# Altium footprint library ASM2464PD.PcbLib: 6 footprints
Each footprint in its own frame and in the unit in brackets; x right, y up, seen from the top. Pads: shape width x height; smd on the part's side, far side on the other; paste and mask are expansions set on the pad; w line width, h text height; cw(c..) or ccw(c..) is an arc to the next point about the centre after c.
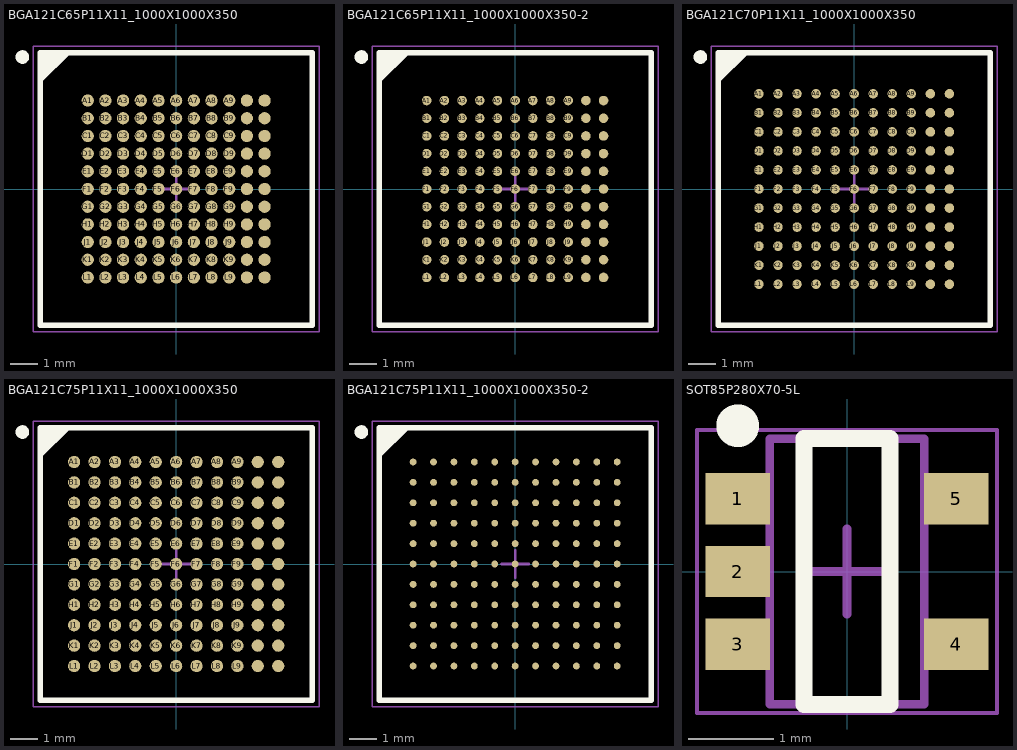
[diagram p0: the footprints below, top view; thin cyan lines are the x and y axes]

## BGA121C65P11X11_1000X1000X350 [mm] "BGA, 121-Leads, Body 10,00x10,00mmx3,50mm, Pitch 0,65mm"
height 3.5
pads (121):
  round 0.45 smd: A1(-3.25,3.25) A2(-2.6,3.25) A3(-1.95,3.25) A4(-1.3,3.25) A5(-0.65,3.25) A6(0,3.25) A7(0.65,3.25) A8(1.3,3.25) A9(1.95,3.25) A10(2.6,3.25) A11(3.25,3.25) B1(-3.25,2.6) B2(-2.6,2.6) B3(-1.95,2.6) B4(-1.3,2.6) B5(-0.65,2.6) B6(0,2.6) B7(0.65,2.6) B8(1.3,2.6) B9(1.95,2.6) B10(2.6,2.6) B11(3.25,2.6) C1(-3.25,1.95) C2(-2.6,1.95) C3(-1.95,1.95) C4(-1.3,1.95) C5(-0.65,1.95) C6(0,1.95) C7(0.65,1.95) C8(1.3,1.95) C9(1.95,1.95) C10(2.6,1.95) C11(3.25,1.95) D1(-3.25,1.3) D2(-2.6,1.3) D3(-1.95,1.3) D4(-1.3,1.3) D5(-0.65,1.3) D6(0,1.3) D7(0.65,1.3) D8(1.3,1.3) D9(1.95,1.3) D10(2.6,1.3) D11(3.25,1.3) E1(-3.25,0.65) E2(-2.6,0.65) E3(-1.95,0.65) E4(-1.3,0.65) E5(-0.65,0.65) E6(0,0.65) E7(0.65,0.65) E8(1.3,0.65) E9(1.95,0.65) E10(2.6,0.65) E11(3.25,0.65) F1(-3.25,0) F2(-2.6,0) F3(-1.95,0) F4(-1.3,0) F5(-0.65,0) F6(0,0) F7(0.65,0) F8(1.3,0) F9(1.95,0) F10(2.6,0) F11(3.25,0) G1(-3.25,-0.65) G2(-2.6,-0.65) G3(-1.95,-0.65) G4(-1.3,-0.65) G5(-0.65,-0.65) G6(0,-0.65) G7(0.65,-0.65) G8(1.3,-0.65) G9(1.95,-0.65) G10(2.6,-0.65) G11(3.25,-0.65) H1(-3.25,-1.3) H2(-2.6,-1.3) H3(-1.95,-1.3) H4(-1.3,-1.3) H5(-0.65,-1.3) H6(0,-1.3) H7(0.65,-1.3) H8(1.3,-1.3) H9(1.95,-1.3) H10(2.6,-1.3) H11(3.25,-1.3) J1(-3.25,-1.95) J2(-2.6,-1.95) J3(-1.95,-1.95) J4(-1.3,-1.95) J5(-0.65,-1.95) J6(0,-1.95) J7(0.65,-1.95) J8(1.3,-1.95) J9(1.95,-1.95) J10(2.6,-1.95) J11(3.25,-1.95) K1(-3.25,-2.6) K2(-2.6,-2.6) K3(-1.95,-2.6) K4(-1.3,-2.6) K5(-0.65,-2.6) K6(0,-2.6) K7(0.65,-2.6) K8(1.3,-2.6) K9(1.95,-2.6) K10(2.6,-2.6) K11(3.25,-2.6) L1(-3.25,-3.25) L2(-2.6,-3.25) L3(-1.95,-3.25) L4(-1.3,-3.25) L5(-0.65,-3.25) L6(0,-3.25) L7(0.65,-3.25) L8(1.3,-3.25) L9(1.95,-3.25) L10(2.6,-3.25) L11(3.25,-3.25)
Top Overlay:
  circle w0.25: c-5.65,4.85 r0.125
  region: -4,5 -5,4 -5,5
  lines w0.2: -5,4 -4,5 ; -5,-5 -5,5 5,5 5,-5 -5,-5
Mechanical 13:
  lines w0.1: -5,-5 -5,5 5,5 5,-5 -5,-5
Mechanical 15:
  lines w0.05: -5.25,-5.25 -5.25,5.25 5.25,5.25 5.25,-5.25 -5.25,-5.25
  lines w0.1: -0.5,0 0.5,0 ; 0,-0.5 0,0.5
3D body: height 3.5, standoff 0.3, extent -5,-5 5,5

## BGA121C65P11X11_1000X1000X350-2 [mm] "BGA, 121-Leads, Body 10,00x10,00mmx3,50mm, Pitch 0,65mm"
height 3.5
pads (121):
  round 0.35 smd: A1(-3.25,3.25) A2(-2.6,3.25) A3(-1.95,3.25) A4(-1.3,3.25) A5(-0.65,3.25) A6(0,3.25) A7(0.65,3.25) A8(1.3,3.25) A9(1.95,3.25) A10(2.6,3.25) A11(3.25,3.25) B1(-3.25,2.6) B2(-2.6,2.6) B3(-1.95,2.6) B4(-1.3,2.6) B5(-0.65,2.6) B6(0,2.6) B7(0.65,2.6) B8(1.3,2.6) B9(1.95,2.6) B10(2.6,2.6) B11(3.25,2.6) C1(-3.25,1.95) C2(-2.6,1.95) C3(-1.95,1.95) C4(-1.3,1.95) C5(-0.65,1.95) C6(0,1.95) C7(0.65,1.95) C8(1.3,1.95) C9(1.95,1.95) C10(2.6,1.95) C11(3.25,1.95) D1(-3.25,1.3) D2(-2.6,1.3) D3(-1.95,1.3) D4(-1.3,1.3) D5(-0.65,1.3) D6(0,1.3) D7(0.65,1.3) D8(1.3,1.3) D9(1.95,1.3) D10(2.6,1.3) D11(3.25,1.3) E1(-3.25,0.65) E2(-2.6,0.65) E3(-1.95,0.65) E4(-1.3,0.65) E5(-0.65,0.65) E6(0,0.65) E7(0.65,0.65) E8(1.3,0.65) E9(1.95,0.65) E10(2.6,0.65) E11(3.25,0.65) F1(-3.25,0) F2(-2.6,0) F3(-1.95,0) F4(-1.3,0) F5(-0.65,0) F6(0,0) F7(0.65,0) F8(1.3,0) F9(1.95,0) F10(2.6,0) F11(3.25,0) G1(-3.25,-0.65) G2(-2.6,-0.65) G3(-1.95,-0.65) G4(-1.3,-0.65) G5(-0.65,-0.65) G6(0,-0.65) G7(0.65,-0.65) G8(1.3,-0.65) G9(1.95,-0.65) G10(2.6,-0.65) G11(3.25,-0.65) H1(-3.25,-1.3) H2(-2.6,-1.3) H3(-1.95,-1.3) H4(-1.3,-1.3) H5(-0.65,-1.3) H6(0,-1.3) H7(0.65,-1.3) H8(1.3,-1.3) H9(1.95,-1.3) H10(2.6,-1.3) H11(3.25,-1.3) J1(-3.25,-1.95) J2(-2.6,-1.95) J3(-1.95,-1.95) J4(-1.3,-1.95) J5(-0.65,-1.95) J6(0,-1.95) J7(0.65,-1.95) J8(1.3,-1.95) J9(1.95,-1.95) J10(2.6,-1.95) J11(3.25,-1.95) K1(-3.25,-2.6) K2(-2.6,-2.6) K3(-1.95,-2.6) K4(-1.3,-2.6) K5(-0.65,-2.6) K6(0,-2.6) K7(0.65,-2.6) K8(1.3,-2.6) K9(1.95,-2.6) K10(2.6,-2.6) K11(3.25,-2.6) L1(-3.25,-3.25) L2(-2.6,-3.25) L3(-1.95,-3.25) L4(-1.3,-3.25) L5(-0.65,-3.25) L6(0,-3.25) L7(0.65,-3.25) L8(1.3,-3.25) L9(1.95,-3.25) L10(2.6,-3.25) L11(3.25,-3.25)
Top Overlay:
  circle w0.25: c-5.65,4.85 r0.125
  region: -4,5 -5,4 -5,5
  lines w0.2: -5,4 -4,5 ; -5,-5 -5,5 5,5 5,-5 -5,-5
Mechanical 13:
  lines w0.1: -5,-5 -5,5 5,5 5,-5 -5,-5
Mechanical 15:
  lines w0.05: -5.25,-5.25 -5.25,5.25 5.25,5.25 5.25,-5.25 -5.25,-5.25
  lines w0.1: -0.5,0 0.5,0 ; 0,-0.5 0,0.5
3D body: height 3.5, standoff 0.3, extent -5,-5 5,5

## BGA121C70P11X11_1000X1000X350 [mm] "BGA, 121-Leads, Body 10,00x10,00mmx3,50mm, Pitch 0,70mm"
height 3.5
pads (121):
  round 0.35 smd: A1(-3.5,3.5) A2(-2.8,3.5) A3(-2.1,3.5) A4(-1.4,3.5) A5(-0.7,3.5) A6(0,3.5) A7(0.7,3.5) A8(1.4,3.5) A9(2.1,3.5) A10(2.8,3.5) A11(3.5,3.5) B1(-3.5,2.8) B2(-2.8,2.8) B3(-2.1,2.8) B4(-1.4,2.8) B5(-0.7,2.8) B6(0,2.8) B7(0.7,2.8) B8(1.4,2.8) B9(2.1,2.8) B10(2.8,2.8) B11(3.5,2.8) C1(-3.5,2.1) C2(-2.8,2.1) C3(-2.1,2.1) C4(-1.4,2.1) C5(-0.7,2.1) C6(0,2.1) C7(0.7,2.1) C8(1.4,2.1) C9(2.1,2.1) C10(2.8,2.1) C11(3.5,2.1) D1(-3.5,1.4) D2(-2.8,1.4) D3(-2.1,1.4) D4(-1.4,1.4) D5(-0.7,1.4) D6(0,1.4) D7(0.7,1.4) D8(1.4,1.4) D9(2.1,1.4) D10(2.8,1.4) D11(3.5,1.4) E1(-3.5,0.7) E2(-2.8,0.7) E3(-2.1,0.7) E4(-1.4,0.7) E5(-0.7,0.7) E6(0,0.7) E7(0.7,0.7) E8(1.4,0.7) E9(2.1,0.7) E10(2.8,0.7) E11(3.5,0.7) F1(-3.5,0) F2(-2.8,0) F3(-2.1,0) F4(-1.4,0) F5(-0.7,0) F6(0,0) F7(0.7,0) F8(1.4,0) F9(2.1,0) F10(2.8,0) F11(3.5,0) G1(-3.5,-0.7) G2(-2.8,-0.7) G3(-2.1,-0.7) G4(-1.4,-0.7) G5(-0.7,-0.7) G6(0,-0.7) G7(0.7,-0.7) G8(1.4,-0.7) G9(2.1,-0.7) G10(2.8,-0.7) G11(3.5,-0.7) H1(-3.5,-1.4) H2(-2.8,-1.4) H3(-2.1,-1.4) H4(-1.4,-1.4) H5(-0.7,-1.4) H6(0,-1.4) H7(0.7,-1.4) H8(1.4,-1.4) H9(2.1,-1.4) H10(2.8,-1.4) H11(3.5,-1.4) J1(-3.5,-2.1) J2(-2.8,-2.1) J3(-2.1,-2.1) J4(-1.4,-2.1) J5(-0.7,-2.1) J6(0,-2.1) J7(0.7,-2.1) J8(1.4,-2.1) J9(2.1,-2.1) J10(2.8,-2.1) J11(3.5,-2.1) K1(-3.5,-2.8) K2(-2.8,-2.8) K3(-2.1,-2.8) K4(-1.4,-2.8) K5(-0.7,-2.8) K6(0,-2.8) K7(0.7,-2.8) K8(1.4,-2.8) K9(2.1,-2.8) K10(2.8,-2.8) K11(3.5,-2.8) L1(-3.5,-3.5) L2(-2.8,-3.5) L3(-2.1,-3.5) L4(-1.4,-3.5) L5(-0.7,-3.5) L6(0,-3.5) L7(0.7,-3.5) L8(1.4,-3.5) L9(2.1,-3.5) L10(2.8,-3.5) L11(3.5,-3.5)
Top Overlay:
  circle w0.25: c-5.65,4.85 r0.125
  region: -4,5 -5,4 -5,5
  lines w0.2: -5,4 -4,5 ; -5,-5 -5,5 5,5 5,-5 -5,-5
Mechanical 13:
  lines w0.1: -5,-5 -5,5 5,5 5,-5 -5,-5
Mechanical 15:
  lines w0.05: -5.25,-5.25 -5.25,5.25 5.25,5.25 5.25,-5.25 -5.25,-5.25
  lines w0.1: -0.5,0 0.5,0 ; 0,-0.5 0,0.5
3D body: height 3.5, standoff 0.3, extent -5,-5 5,5

## BGA121C75P11X11_1000X1000X350 [mm] "BGA, 121-Leads, Body 10,00x10,00mmx3,50mm, Pitch 0,75mm"
height 3.5
pads (121):
  round 0.45 smd: A1(-3.75,3.75) A2(-3,3.75) A3(-2.25,3.75) A4(-1.5,3.75) A5(-0.75,3.75) A6(0,3.75) A7(0.75,3.75) A8(1.5,3.75) A9(2.25,3.75) A10(3,3.75) A11(3.75,3.75) B1(-3.75,3) B2(-3,3) B3(-2.25,3) B4(-1.5,3) B5(-0.75,3) B6(0,3) B7(0.75,3) B8(1.5,3) B9(2.25,3) B10(3,3) B11(3.75,3) C1(-3.75,2.25) C2(-3,2.25) C3(-2.25,2.25) C4(-1.5,2.25) C5(-0.75,2.25) C6(0,2.25) C7(0.75,2.25) C8(1.5,2.25) C9(2.25,2.25) C10(3,2.25) C11(3.75,2.25) D1(-3.75,1.5) D2(-3,1.5) D3(-2.25,1.5) D4(-1.5,1.5) D5(-0.75,1.5) D6(0,1.5) D7(0.75,1.5) D8(1.5,1.5) D9(2.25,1.5) D10(3,1.5) D11(3.75,1.5) E1(-3.75,0.75) E2(-3,0.75) E3(-2.25,0.75) E4(-1.5,0.75) E5(-0.75,0.75) E6(0,0.75) E7(0.75,0.75) E8(1.5,0.75) E9(2.25,0.75) E10(3,0.75) E11(3.75,0.75) F1(-3.75,0) F2(-3,0) F3(-2.25,0) F4(-1.5,0) F5(-0.75,0) F6(0,0) F7(0.75,0) F8(1.5,0) F9(2.25,0) F10(3,0) F11(3.75,0) G1(-3.75,-0.75) G2(-3,-0.75) G3(-2.25,-0.75) G4(-1.5,-0.75) G5(-0.75,-0.75) G6(0,-0.75) G7(0.75,-0.75) G8(1.5,-0.75) G9(2.25,-0.75) G10(3,-0.75) G11(3.75,-0.75) H1(-3.75,-1.5) H2(-3,-1.5) H3(-2.25,-1.5) H4(-1.5,-1.5) H5(-0.75,-1.5) H6(0,-1.5) H7(0.75,-1.5) H8(1.5,-1.5) H9(2.25,-1.5) H10(3,-1.5) H11(3.75,-1.5) J1(-3.75,-2.25) J2(-3,-2.25) J3(-2.25,-2.25) J4(-1.5,-2.25) J5(-0.75,-2.25) J6(0,-2.25) J7(0.75,-2.25) J8(1.5,-2.25) J9(2.25,-2.25) J10(3,-2.25) J11(3.75,-2.25) K1(-3.75,-3) K2(-3,-3) K3(-2.25,-3) K4(-1.5,-3) K5(-0.75,-3) K6(0,-3) K7(0.75,-3) K8(1.5,-3) K9(2.25,-3) K10(3,-3) K11(3.75,-3) L1(-3.75,-3.75) L2(-3,-3.75) L3(-2.25,-3.75) L4(-1.5,-3.75) L5(-0.75,-3.75) L6(0,-3.75) L7(0.75,-3.75) L8(1.5,-3.75) L9(2.25,-3.75) L10(3,-3.75) L11(3.75,-3.75)
Top Overlay:
  circle w0.25: c-5.65,4.85 r0.125
  region: -4,5 -5,4 -5,5
  lines w0.2: -5,4 -4,5 ; -5,-5 5,-5 5,5 -5,5 -5,-5
Mechanical 13:
  lines w0.1: -5,-5 5,-5 5,5 -5,5 -5,-5
Mechanical 15:
  lines w0.05: -5.25,-5.25 5.25,-5.25 5.25,5.25 -5.25,5.25 -5.25,-5.25
  lines w0.1: -0.5,0 0.5,0 ; 0,-0.5 0,0.5
3D body: height 3.5, standoff 0.3, extent -5,-5 5,5

## BGA121C75P11X11_1000X1000X350-2 [mm] "BGA, 121-Leads, Body 10,00x10,00mmx3,50mm, Pitch 0,75mm"
height 3.5
pads (121):
  round 0.25 smd: A1(-3.75,3.75) A2(-3,3.75) A3(-2.25,3.75) A4(-1.5,3.75) A5(-0.75,3.75) A6(0,3.75) A7(0.75,3.75) A8(1.5,3.75) A9(2.25,3.75) A10(3,3.75) A11(3.75,3.75) B1(-3.75,3) B2(-3,3) B3(-2.25,3) B4(-1.5,3) B5(-0.75,3) B6(0,3) B7(0.75,3) B8(1.5,3) B9(2.25,3) B10(3,3) B11(3.75,3) C1(-3.75,2.25) C2(-3,2.25) C3(-2.25,2.25) C4(-1.5,2.25) C5(-0.75,2.25) C6(0,2.25) C7(0.75,2.25) C8(1.5,2.25) C9(2.25,2.25) C10(3,2.25) C11(3.75,2.25) D1(-3.75,1.5) D2(-3,1.5) D3(-2.25,1.5) D4(-1.5,1.5) D5(-0.75,1.5) D6(0,1.5) D7(0.75,1.5) D8(1.5,1.5) D9(2.25,1.5) D10(3,1.5) D11(3.75,1.5) E1(-3.75,0.75) E2(-3,0.75) E3(-2.25,0.75) E4(-1.5,0.75) E5(-0.75,0.75) E6(0,0.75) E7(0.75,0.75) E8(1.5,0.75) E9(2.25,0.75) E10(3,0.75) E11(3.75,0.75) F1(-3.75,0) F2(-3,0) F3(-2.25,0) F4(-1.5,0) F5(-0.75,0) F6(0,0) F7(0.75,0) F8(1.5,0) F9(2.25,0) F10(3,0) F11(3.75,0) G1(-3.75,-0.75) G2(-3,-0.75) G3(-2.25,-0.75) G4(-1.5,-0.75) G5(-0.75,-0.75) G6(0,-0.75) G7(0.75,-0.75) G8(1.5,-0.75) G9(2.25,-0.75) G10(3,-0.75) G11(3.75,-0.75) H1(-3.75,-1.5) H2(-3,-1.5) H3(-2.25,-1.5) H4(-1.5,-1.5) H5(-0.75,-1.5) H6(0,-1.5) H7(0.75,-1.5) H8(1.5,-1.5) H9(2.25,-1.5) H10(3,-1.5) H11(3.75,-1.5) J1(-3.75,-2.25) J2(-3,-2.25) J3(-2.25,-2.25) J4(-1.5,-2.25) J5(-0.75,-2.25) J6(0,-2.25) J7(0.75,-2.25) J8(1.5,-2.25) J9(2.25,-2.25) J10(3,-2.25) J11(3.75,-2.25) K1(-3.75,-3) K2(-3,-3) K3(-2.25,-3) K4(-1.5,-3) K5(-0.75,-3) K6(0,-3) K7(0.75,-3) K8(1.5,-3) K9(2.25,-3) K10(3,-3) K11(3.75,-3) L1(-3.75,-3.75) L2(-3,-3.75) L3(-2.25,-3.75) L4(-1.5,-3.75) L5(-0.75,-3.75) L6(0,-3.75) L7(0.75,-3.75) L8(1.5,-3.75) L9(2.25,-3.75) L10(3,-3.75) L11(3.75,-3.75)
Top Overlay:
  circle w0.25: c-5.65,4.85 r0.125
  region: -4,5 -5,4 -5,5
  lines w0.2: -5,4 -4,5 ; -5,-5 -5,5 5,5 5,-5 -5,-5
Mechanical 13:
  lines w0.1: -5,-5 -5,5 5,5 5,-5 -5,-5
Mechanical 15:
  lines w0.05: -5.25,-5.25 -5.25,5.25 5.25,5.25 5.25,-5.25 -5.25,-5.25
  lines w0.1: -0.5,0 0.5,0 ; 0,-0.5 0,0.5
3D body: height 3.5, standoff 0.3, extent -5,-5 5,5

## SOT85P280X70-5L [mm] "SOT23, 5-Leads, Body 2,90x2,80mm, Pitch 0,85mm, IPC High Density"
height 0.7
pads (5):
  rect 0.75x0.6 smd: 1(-1.275,0.85) 2(-1.275,0) 3(-1.275,-0.85) 4(1.275,-0.85) 5(1.275,0.85)
Top Overlay:
  circle w0.25: c-1.275,1.7 r0.125
  lines w0.2: -0.5,-1.55 0.5,-1.55 0.5,1.55 -0.5,1.55 -0.5,-1.55
Mechanical 13:
  lines w0.1: -0.9,-1.55 -0.9,1.55 0.9,1.55 0.9,-1.55 -0.9,-1.55
Mechanical 15:
  lines w0.05: -1.75,-1.65 -1.75,1.65 1.75,1.65 1.75,-1.65 -1.75,-1.65
  lines w0.1: -0.5,0 0.5,0 ; 0,-0.5 0,0.5
3D body "SOT85P280X70-5L.step": height 1, standoff 0, extent -1.5,-1.55 1.5,1.55